# Altium schematic symbol library dungvh03-CERN_Logic.SchLib: 486 symbols (part 25 of 54)
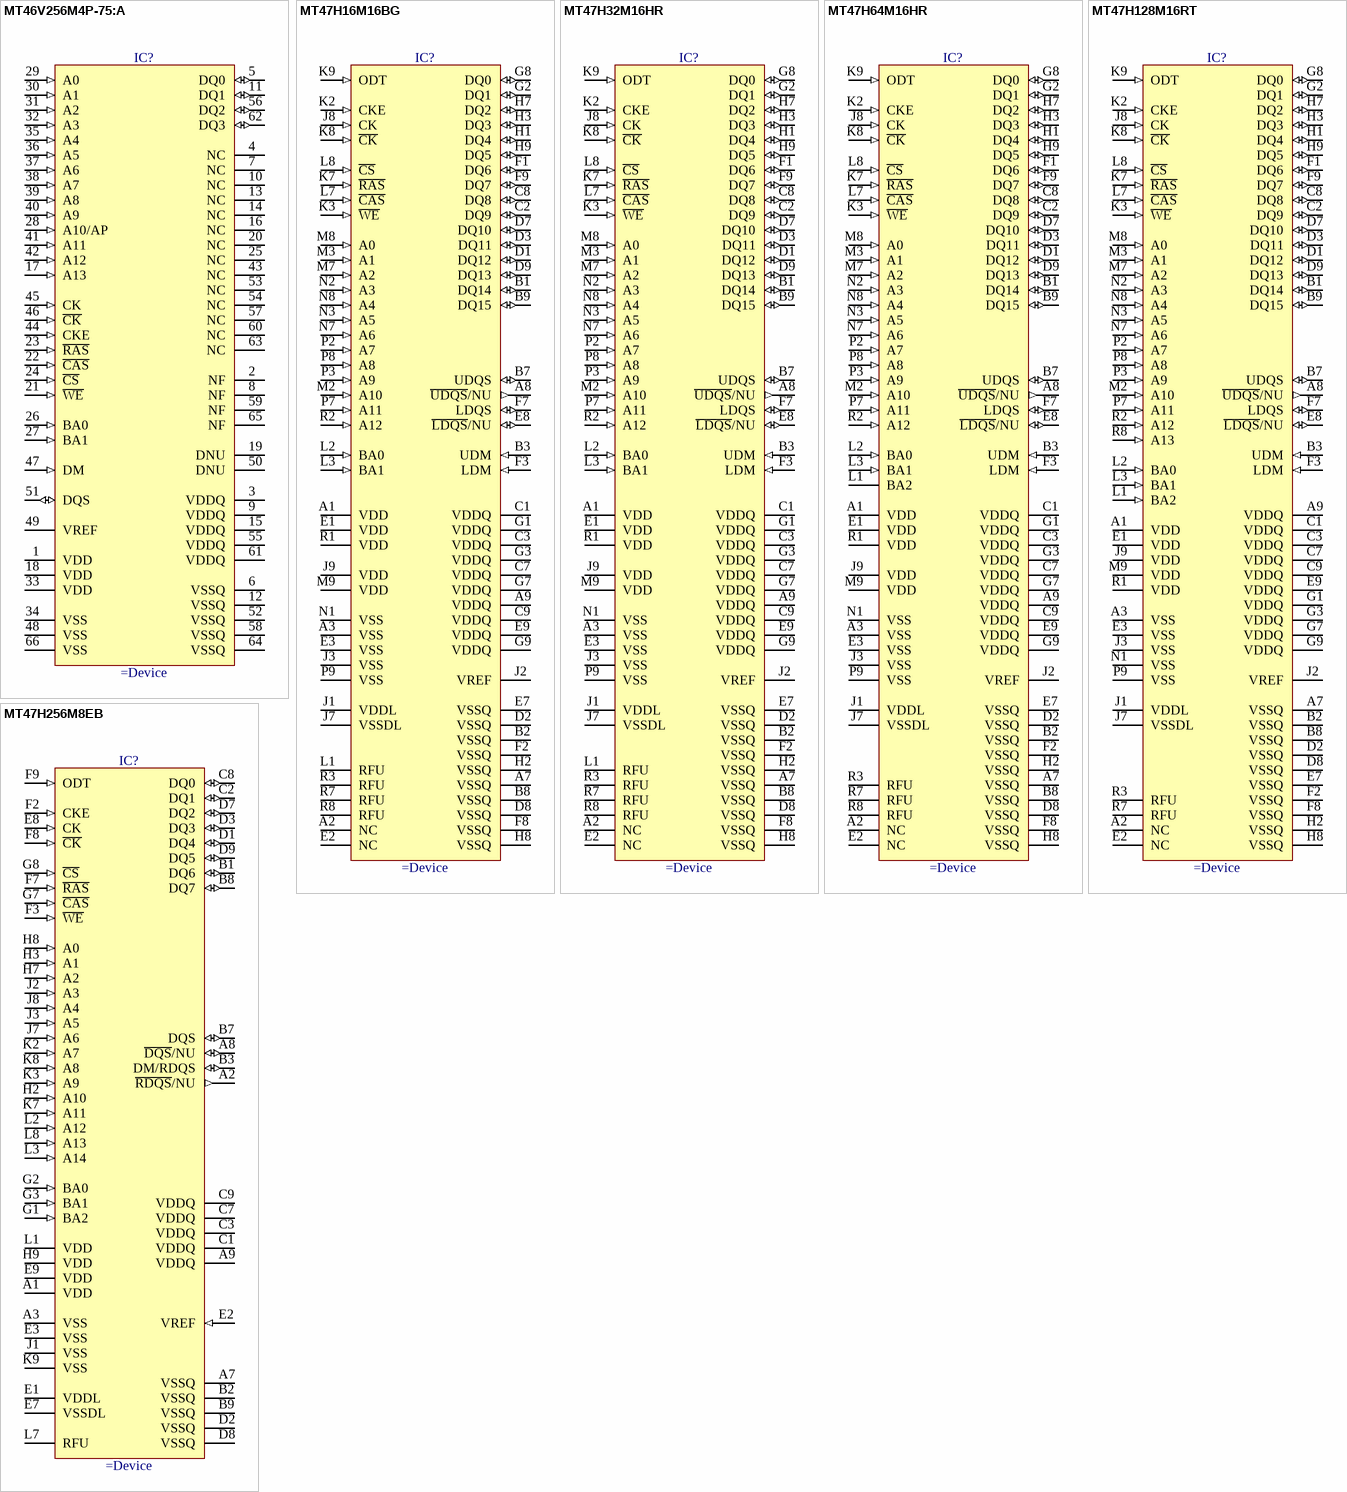
[diagram p285: symbols MT46V256M4P-75:A to MT47H256M8EB]

## MT47H256M8EB
designator IC?
DDR2 SDRAM 32 Meg x 8 x 8 Banks
pins: A1 VDD (power) "Power supply: 1.8V +/-0.1V.", A2 ~{RDQS}/NU (out) "Redundant data strobe: For x8 only. RDQS is enabled/disabled via the LOAD MODE command to the extended mode register (EMR). When RDQS is enabled, RDQS is output with read data only and is ignored during write data. When RDQS (See Datasheet)", A3 VSS (power) "Ground.", A7 VSSQ (power) "DQ ground: Isolated on the device for improved noise immunity.", A8 ~{DQS}/NU (io) "Data strobe: Output with read data, input with write data for source synchronous operation. Edge-aligned with read data, center-aligned with write data. DQS# is only used when differential data strobe mode is enabled via the (See Datasheet)", A9 VDDQ (power) "DQ power supply: 1.8V +/-0.1V. Isolated on the device for improved noise immunity.", B1 DQ6 (io) "Data input/output: Bidirectional data bus for 256 Meg x 8.", B2 VSSQ (power) "DQ ground: Isolated on the device for improved noise immunity.", B3 DM/RDQS (io) "Input data mask: DM is an input mask signal for write data. Input data is masked when DM is concurrently sampled HIGH during a WRITE access. DM is sampled on both edges of DQS. Although DM balls are input-only, the DM (See Datasheet)", B7 DQS (io) "Data strobe: Output with read data, input with write data for source synchronous operation. Edge-aligned with read data, center-aligned with write data. DQS# is only used when differential data strobe mode is enabled via the (See Datasheet)", B8 DQ7 (io) "Data input/output: Bidirectional data bus for 256 Meg x 8.", B9 VSSQ (power) "DQ ground: Isolated on the device for improved noise immunity.", C1 VDDQ (power) "DQ power supply: 1.8V +/-0.1V. Isolated on the device for improved noise immunity.", C2 DQ1 (io) "Data input/output: Bidirectional data bus for 256 Meg x 8.", C3 VDDQ (power) "DQ power supply: 1.8V +/-0.1V. Isolated on the device for improved noise immunity.", C7 VDDQ (power) "DQ power supply: 1.8V +/-0.1V. Isolated on the device for improved noise immunity.", C8 DQ0 (io) "Data input/output: Bidirectional data bus for 256 Meg x 8.", C9 VDDQ (power) "DQ power supply: 1.8V +/-0.1V. Isolated on the device for improved noise immunity.", D1 DQ4 (io) "Data input/output: Bidirectional data bus for 256 Meg x 8.", D2 VSSQ (power) "DQ ground: Isolated on the device for improved noise immunity.", D3 DQ3 (io) "Data input/output: Bidirectional data bus for 256 Meg x 8.", D7 DQ2 (io) "Data input/output: Bidirectional data bus for 256 Meg x 8.", D8 VSSQ (power) "DQ ground: Isolated on the device for improved noise immunity.", D9 DQ5 (io) "Data input/output: Bidirectional data bus for 256 Meg x 8.", E1 VDDL (power) "DLL power supply: 1.8V +/-0.1V.", E2 VREF (in) "SSTL_18 reference voltage.", E3 VSS (power) "Ground.", E7 VSSDL (power) "DLL ground: Isolated on the device from VSS and VSSQ.", E8 CK (in) "Clock: CK and CK# are differential clock inputs. All address and control input signals are sampled on the crossing of the positive edge of CK and negative edge of CK#. Output data (DQ and DQS/DQS#) is referenced to the (See Datasheet)", E9 VDD (power) "Power supply: 1.8V +/-0.1V.", F2 CKE (in) "Clock enable: CKE (registered HIGH) activates and CKE (registered LOW) deactivates clocking circuitry on the DDR2 SDRAM. The specific circuitry that is enabled/disabled is dependent on the DDR2 SDRAM configuration and (See Datasheet)", F3 ~{WE} (in) "Command inputs: RAS#, CAS#, and WE# (along with CS#) define the command being entered.", F7 ~{RAS} (in) "Command inputs: RAS#, CAS#, and WE# (along with CS#) define the command being entered.", F8 ~{CK} (in) "Clock: CK and CK# are differential clock inputs. All address and control input signals are sampled on the crossing of the positive edge of CK and negative edge of CK#. Output data (DQ and DQS/DQS#) is referenced to the (See Datasheet)", F9 ODT (in) "On-die termination: ODT (registered HIGH) enables termination resistance internal to the DDR2 SDRAM. When enabled, ODT is only applied to each of the following balls: DQ[15:0], LDM, UDM, LDQS, LDQS#, UDQS, and UDQS# for the (See Datasheet)", G1 BA2 (in) "Bank address inputs: BA[2:0] define to which bank an ACTIVE, READ, WRITE, or PRECHARGE command is being applied. BA[2:0] define which mode register, including MR, EMR, EMR(2), and EMR(3), is loaded during the LOAD MODE (See Datasheet)", G2 BA0 (in) "Bank address inputs: BA[2:0] define to which bank an ACTIVE, READ, WRITE, or PRECHARGE command is being applied. BA[2:0] define which mode register, including MR, EMR, EMR(2), and EMR(3), is loaded during the LOAD MODE (See Datasheet)", G3 BA1 (in) "Bank address inputs: BA[2:0] define to which bank an ACTIVE, READ, WRITE, or PRECHARGE command is being applied. BA[2:0] define which mode register, including MR, EMR, EMR(2), and EMR(3), is loaded during the LOAD MODE (See Datasheet)", G7 ~{CAS} (in) "Command inputs: RAS#, CAS#, and WE# (along with CS#) define the command being entered.", G8 ~{CS} (in) "Chip select: CS# enables (registered LOW) and disables (registered HIGH) the command decoder. All commands are masked when CS# is registered high. CS# provides for external bank selection on systems with multiple ranks. CS# (See Datasheet)", H2 A10 (in) "Address inputs: Provide the row address for ACTIVE commands, and the column address and auto precharge bit (A10) for READ/WRITE commands, to select one location out of the memory array in the respective bank. A10 sampled (See Datasheet)", H3 A1 (in) "Address inputs: Provide the row address for ACTIVE commands, and the column address and auto precharge bit (A10) for READ/WRITE commands, to select one location out of the memory array in the respective bank. A10 sampled (See Datasheet)", H7 A2 (in) "Address inputs: Provide the row address for ACTIVE commands, and the column address and auto precharge bit (A10) for READ/WRITE commands, to select one location out of the memory array in the respective bank. A10 sampled (See Datasheet)", H8 A0 (in) "Address inputs: Provide the row address for ACTIVE commands, and the column address and auto precharge bit (A10) for READ/WRITE commands, to select one location out of the memory array in the respective bank. A10 sampled (See Datasheet)", H9 VDD (power) "Power supply: 1.8V +/-0.1V.", J1 VSS (power) "Ground.", J2 A3 (in) "Address inputs: Provide the row address for ACTIVE commands, and the column address and auto precharge bit (A10) for READ/WRITE commands, to select one location out of the memory array in the respective bank. A10 sampled (See Datasheet)", J3 A5 (in) "Address inputs: Provide the row address for ACTIVE commands, and the column address and auto precharge bit (A10) for READ/WRITE commands, to select one location out of the memory array in the respective bank. A10 sampled (See Datasheet)", J7 A6 (in) "Address inputs: Provide the row address for ACTIVE commands, and the column address and auto precharge bit (A10) for READ/WRITE commands, to select one location out of the memory array in the respective bank. A10 sampled (See Datasheet)", J8 A4 (in) "Address inputs: Provide the row address for ACTIVE commands, and the column address and auto precharge bit (A10) for READ/WRITE commands, to select one location out of the memory array in the respective bank. A10 sampled (See Datasheet)", K2 A7 (in) "Address inputs: Provide the row address for ACTIVE commands, and the column address and auto precharge bit (A10) for READ/WRITE commands, to select one location out of the memory array in the respective bank. A10 sampled (See Datasheet)", K3 A9 (in) "Address inputs: Provide the row address for ACTIVE commands, and the column address and auto precharge bit (A10) for READ/WRITE commands, to select one location out of the memory array in the respective bank. A10 sampled (See Datasheet)", K7 A11 (in) "Address inputs: Provide the row address for ACTIVE commands, and the column address and auto precharge bit (A10) for READ/WRITE commands, to select one location out of the memory array in the respective bank. A10 sampled (See Datasheet)", K8 A8 (in) "Address inputs: Provide the row address for ACTIVE commands, and the column address and auto precharge bit (A10) for READ/WRITE commands, to select one location out of the memory array in the respective bank. A10 sampled (See Datasheet)", K9 VSS (power) "Ground.", L1 VDD (power) "Power supply: 1.8V +/-0.1V.", L2 A12 (in) "Address inputs: Provide the row address for ACTIVE commands, and the column address and auto precharge bit (A10) for READ/WRITE commands, to select one location out of the memory array in the respective bank. A10 sampled (See Datasheet)", L3 A14 (in) "Address inputs: Provide the row address for ACTIVE commands, and the column address and auto precharge bit (A10) for READ/WRITE commands, to select one location out of the memory array in the respective bank. A10 sampled (See Datasheet)", L7 RFU "Reserved for future use: Row address bits A14 (R3), A15 (R7) on the x16, and A15 (L7) on the x4/x8.", L8 A13 (in) "Address inputs: Provide the row address for ACTIVE commands, and the column address and auto precharge bit (A10) for READ/WRITE commands, to select one location out of the memory array in the respective bank. A10 sampled (See Datasheet)"

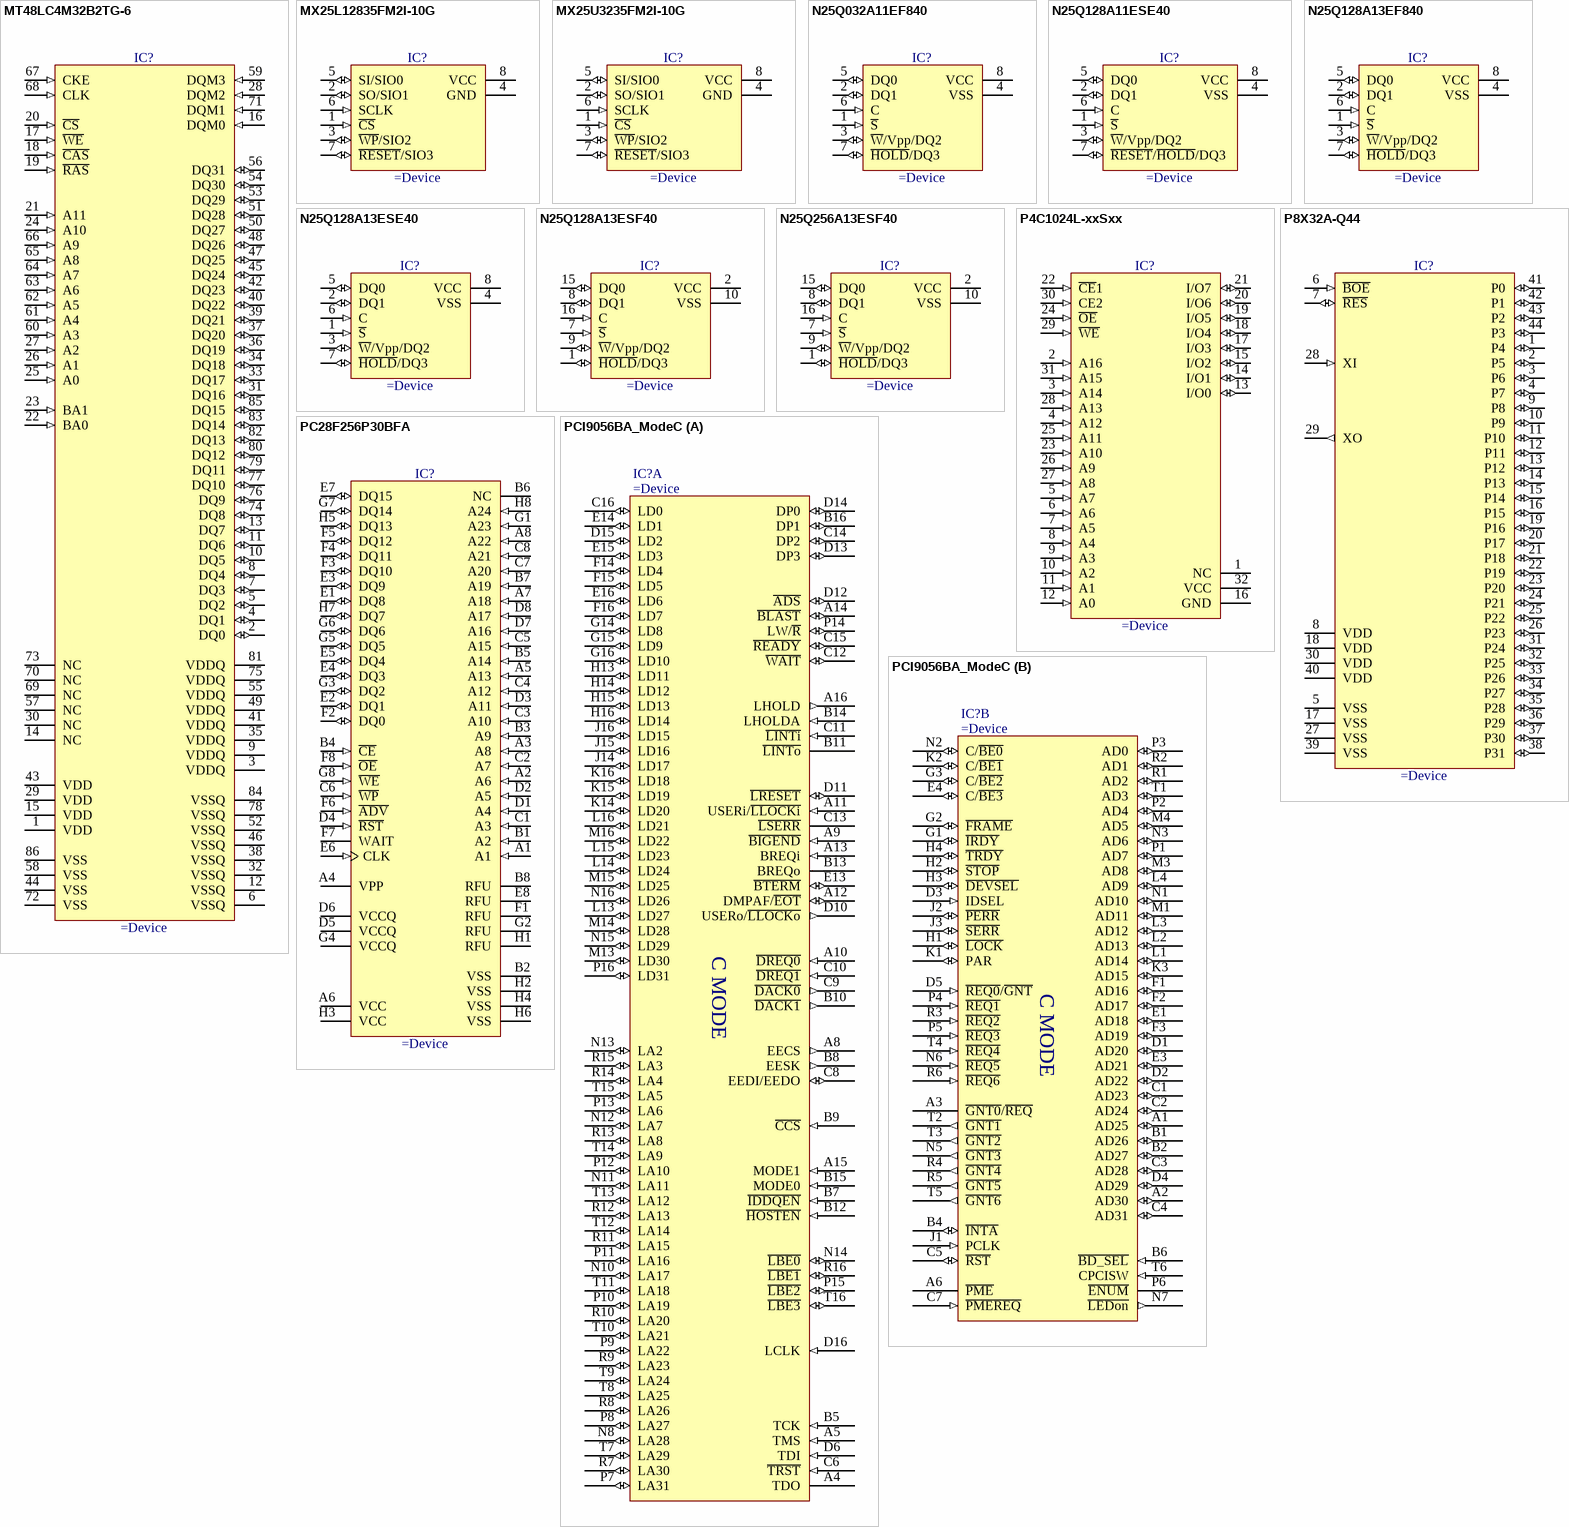
[diagram p110: symbols MT48LC4M32B2TG-6 to PCI9056BA_ModeC]

## MT48LC4M32B2TG-6
designator IC?
4M x 32 Synchronous DRAM
pins: 1 VDD (power), 2 DQ0 (io), 3 VDDQ (power), 4 DQ1 (io), 5 DQ2 (io), 6 VSSQ (power), 7 DQ3 (io), 8 DQ4 (io), 9 VDDQ (power), 10 DQ5 (io), 11 DQ6 (io), 12 VSSQ (power), 13 DQ7 (io), 14 NC, 15 VDD (power), 16 DQM0 (in), 17 ~{WE} (in), 18 ~{CAS} (in), 19 ~{RAS} (in), 20 ~{CS} (in), 21 A11 (in), 22 BA0 (in), 23 BA1 (in), 24 A10 (in), 25 A0 (in), 26 A1 (in), 27 A2 (in), 28 DQM2 (in), 29 VDD (power), 30 NC, 31 DQ16 (io), 32 VSSQ (power), 33 DQ17 (io), 34 DQ18 (io), 35 VDDQ (power), 36 DQ19 (io), 37 DQ20 (io), 38 VSSQ (power), 39 DQ21 (io), 40 DQ22 (io), 41 VDDQ (power), 42 DQ23 (io), 43 VDD (power), 44 VSS (power), 45 DQ24 (io), 46 VSSQ (power), 47 DQ25 (io), 48 DQ26 (io), 49 VDDQ (power), 50 DQ27 (io), 51 DQ28 (io), 52 VSSQ (power), 53 DQ29 (io), 54 DQ30 (io), 55 VDDQ (power), 56 DQ31 (io), 57 NC, 58 VSS (power), 59 DQM3 (in), 60 A3 (in), 61 A4 (in), 62 A5 (in), 63 A6 (in), 64 A7 (in), 65 A8 (in), 66 A9 (in), 67 CKE (in), 68 CLK (in), 69 NC, 70 NC, 71 DQM1 (in), 72 VSS (power), 73 NC, 74 DQ8 (io), 75 VDDQ (power), 76 DQ9 (io), 77 DQ10 (io), 78 VSSQ (power), 79 DQ11 (io), 80 DQ12 (io), 81 VDDQ (power), 82 DQ13 (io), 83 DQ14 (io), 84 VSSQ (power), 85 DQ15 (io), 86 VSS (power)

## MX25L12835FM2I-10G
designator IC?
128Mb, 3V, Serial Multi I/O Flash Memory
pins: 1 ~{CS} (in), 2 SO/SIO1 (io), 3 ~{WP}/SIO2 (io), 4 GND (power), 5 SI/SIO0 (io), 6 SCLK (in), 7 ~{RESET}/SIO3 (io), 8 VCC (power)

## MX25U3235FM2I-10G
designator IC?
32Mb (4M x 8), 1.8V, CMOS MXSMIO® Serial Multi I/O Flash Memory
pins: 1 ~{CS} (in), 2 SO/SIO1 (io), 3 ~{WP}/SIO2 (io), 4 GND (power), 5 SI/SIO0 (io), 6 SCLK (in), 7 ~{RESET}/SIO3 (io), 8 VCC (power)

## N25Q032A11EF840
designator IC?
32Mb, 1.8V, Multiple I/O Serial Flash Memory
pins: 1 ~{S} (in), 2 DQ1 (io), 3 ~{W}/Vpp/DQ2 (io), 4 VSS (power), 5 DQ0 (io), 6 C (in), 7 ~{HOLD}/DQ3 (io), 8 VCC (power)

## N25Q128A11ESE40
designator IC?
128Mb, 1.8V, Multiple I/O Serial NOR Flash Memory
pins: 1 ~{S} (in), 2 DQ1 (io), 3 ~{W}/Vpp/DQ2 (io), 4 VSS (power), 5 DQ0 (io), 6 C (in), 7 ~{RESET}/~{HOLD}/DQ3 (io), 8 VCC (power)

## N25Q128A13EF840
designator IC?
128Mb, 3V, Multiple I/O Serial NOR Flash Memory
pins: 1 ~{S} (in), 2 DQ1 (io), 3 ~{W}/Vpp/DQ2 (io), 4 VSS (power), 5 DQ0 (io), 6 C (in), 7 ~{HOLD}/DQ3 (io), 8 VCC (power)

## N25Q128A13ESE40
designator IC?
128Mb, 3V, Multiple I/O Serial NOR Flash Memory
pins: 1 ~{S} (in), 2 DQ1 (io), 3 ~{W}/Vpp/DQ2 (io), 4 VSS (power), 5 DQ0 (io), 6 C (in), 7 ~{HOLD}/DQ3 (io), 8 VCC (power)

## N25Q128A13ESF40
designator IC?
128Mb, 3V, Multiple I/O Serial NOR Flash Memory
pins: 1 ~{HOLD}/DQ3 (io), 2 VCC (power), 7 ~{S} (in), 8 DQ1 (io), 9 ~{W}/Vpp/DQ2 (io), 10 VSS (power), 15 DQ0 (io), 16 C (in)

## N25Q256A13ESF40
designator IC?
256Mb, 3V, Multiple I/O Serial Flash Memory
pins: 1 ~{HOLD}/DQ3 (io), 2 VCC (power), 7 ~{S} (in), 8 DQ1 (io), 9 ~{W}/Vpp/DQ2 (io), 10 VSS (power), 15 DQ0 (io), 16 C (in)

## P4C1024L-xxSxx
designator IC?
5V Low Power 128K x 8 CMOS Static RAM
pins: 1 NC, 2 A16 (in), 3 A14 (in), 4 A12 (in), 5 A7 (in), 6 A6 (in), 7 A5 (in), 8 A4 (in), 9 A3 (in), 10 A2 (in), 11 A1 (in), 12 A0 (in), 13 I/O0 (io), 14 I/O1 (io), 15 I/O2 (io), 16 GND (power), 17 I/O3 (io), 18 I/O4 (io), 19 I/O5 (io), 20 I/O6 (io), 21 I/O7 (io), 22 ~{CE}1 (in), 23 A10 (in), 24 ~{OE} (in), 25 A11 (in), 26 A9 (in), 27 A8 (in), 28 A13 (in), 29 ~{WE} (in), 30 CE2 (in), 31 A15 (in), 32 VCC (power)

## P8X32A-Q44
designator IC?
32-Bit PROPELLER MCU
pins: 1 P4 (io), 2 P5 (io), 3 P6 (io), 4 P7 (io), 5 VSS (power), 6 ~{BOE} (in), 7 ~{RES} (io), 8 VDD (power), 9 P8 (io), 10 P9 (io), 11 P10 (io), 12 P11 (io), 13 P12 (io), 14 P13 (io), 15 P14 (io), 16 P15 (io), 17 VSS (power), 18 VDD (power), 19 P16 (io), 20 P17 (io), 21 P18 (io), 22 P19 (io), 23 P20 (io), 24 P21 (io), 25 P22 (io), 26 P23 (io), 27 VSS (power), 28 XI (in), 29 XO (out), 30 VDD (power), 31 P24 (io), 32 P25 (io), 33 P26 (io), 34 P27 (io), 35 P28 (io), 36 P29 (io), 37 P30 (io), 38 P31 (io), 39 VSS (power), 40 VDD (power), 41 P0 (io), 42 P1 (io), 43 P2 (io), 44 P3 (io)

## PC28F256P30BFA
designator IC?
256 Mb (x16) Parallel NOR Flash Memory, 100 ns, 1.7 to 2.0 V, 64-ball Easy BGA (PC), Tray
pins: A1 (in) "Address Input: Device Address Input. 64-Mbit: A[22:1]; 128-Mbit: A[23:1]; 256-Mbit: A[24:1]; 512-Mbit: A[25:1]. Note: The virtual selection of the 256-Mbit "Top parameter" die in the dual-die 512-Mbit configuration is (See Datasheet)", A2 A6 (in) "Address Input: Device Address Input. 64-Mbit: A[22:1]; 128-Mbit: A[23:1]; 256-Mbit: A[24:1]; 512-Mbit: A[25:1]. Note: The virtual selection of the 256-Mbit "Top parameter" die in the dual-die 512-Mbit configuration is (See Datasheet)", A3 A8 (in) "Address Input: Device Address Input. 64-Mbit: A[22:1]; 128-Mbit: A[23:1]; 256-Mbit: A[24:1]; 512-Mbit: A[25:1]. Note: The virtual selection of the 256-Mbit "Top parameter" die in the dual-die 512-Mbit configuration is (See Datasheet)", A4 VPP (power) "Erase and Program Power: A valid voltage on this pin allows erasing or programming. Memory contents cannot be altered when VPP =< VPPLK. Block erase and program at invalid VPP voltages should not be attempted. Set VPP = VPPL (See Datasheet)", A5 A13 (in) "Address Input: Device Address Input. 64-Mbit: A[22:1]; 128-Mbit: A[23:1]; 256-Mbit: A[24:1]; 512-Mbit: A[25:1]. Note: The virtual selection of the 256-Mbit "Top parameter" die in the dual-die 512-Mbit configuration is (See Datasheet)", A6 VCC (power) "Device Core Power Supply: Core (logic) source voltage. Writes to the flash array are inhibited when VCC =< VLKO. Operations at invalid VCC voltages should not be attempted.", A7 A18 (in) "Address Input: Device Address Input. 64-Mbit: A[22:1]; 128-Mbit: A[23:1]; 256-Mbit: A[24:1]; 512-Mbit: A[25:1]. Note: The virtual selection of the 256-Mbit "Top parameter" die in the dual-die 512-Mbit configuration is (See Datasheet)", A8 A22 (in) "Address Input: Device Address Input. 64-Mbit: A[22:1]; 128-Mbit: A[23:1]; 256-Mbit: A[24:1]; 512-Mbit: A[25:1]. Note: The virtual selection of the 256-Mbit "Top parameter" die in the dual-die 512-Mbit configuration is (See Datasheet)", B1 A2 (in) "Address Input: Device Address Input. 64-Mbit: A[22:1]; 128-Mbit: A[23:1]; 256-Mbit: A[24:1]; 512-Mbit: A[25:1]. Note: The virtual selection of the 256-Mbit "Top parameter" die in the dual-die 512-Mbit configuration is (See Datasheet)", B2 VSS (power) "Ground: Connect to system ground. Do not float any VSS connection.", B3 A9 (in) "Address Input: Device Address Input. 64-Mbit: A[22:1]; 128-Mbit: A[23:1]; 256-Mbit: A[24:1]; 512-Mbit: A[25:1]. Note: The virtual selection of the 256-Mbit "Top parameter" die in the dual-die 512-Mbit configuration is (See Datasheet)", B4 ~{CE} (in) "FLASH CHIP ENABLE: Active low input. CE# low selects the associated flash memory die. When asserted, flash internal control logic, input buffers, decoders, and sense amplifiers are active. When deasserted, the associated (See Datasheet)", B5 A14 (in) "Address Input: Device Address Input. 64-Mbit: A[22:1]; 128-Mbit: A[23:1]; 256-Mbit: A[24:1]; 512-Mbit: A[25:1]. Note: The virtual selection of the 256-Mbit "Top parameter" die in the dual-die 512-Mbit configuration is (See Datasheet)", B6 NC "No Connect: No internal connection; can be driven or floated.", B7 A19 (in) "Address Input: Device Address Input. 64-Mbit: A[22:1]; 128-Mbit: A[23:1]; 256-Mbit: A[24:1]; 512-Mbit: A[25:1]. Note: The virtual selection of the 256-Mbit "Top parameter" die in the dual-die 512-Mbit configuration is (See Datasheet)", B8 RFU "Reserved for Future Use: Reserved by Numonyx for future device functionality and enhancement. These should be treated in the same way as a Do Not Use (DU) signal.", C1 A3 (in) "Address Input: Device Address Input. 64-Mbit: A[22:1]; 128-Mbit: A[23:1]; 256-Mbit: A[24:1]; 512-Mbit: A[25:1]. Note: The virtual selection of the 256-Mbit "Top parameter" die in the dual-die 512-Mbit configuration is (See Datasheet)", C2 A7 (in) "Address Input: Device Address Input. 64-Mbit: A[22:1]; 128-Mbit: A[23:1]; 256-Mbit: A[24:1]; 512-Mbit: A[25:1]. Note: The virtual selection of the 256-Mbit "Top parameter" die in the dual-die 512-Mbit configuration is (See Datasheet)", C3 A10 (in) "Address Input: Device Address Input. 64-Mbit: A[22:1]; 128-Mbit: A[23:1]; 256-Mbit: A[24:1]; 512-Mbit: A[25:1]. Note: The virtual selection of the 256-Mbit "Top parameter" die in the dual-die 512-Mbit configuration is (See Datasheet)", C4 A12 (in) "Address Input: Device Address Input. 64-Mbit: A[22:1]; 128-Mbit: A[23:1]; 256-Mbit: A[24:1]; 512-Mbit: A[25:1]. Note: The virtual selection of the 256-Mbit "Top parameter" die in the dual-die 512-Mbit configuration is (See Datasheet)", C5 A15 (in) "Address Input: Device Address Input. 64-Mbit: A[22:1]; 128-Mbit: A[23:1]; 256-Mbit: A[24:1]; 512-Mbit: A[25:1]. Note: The virtual selection of the 256-Mbit "Top parameter" die in the dual-die 512-Mbit configuration is (See Datasheet)", C6 ~{WP} (in) "WRITE PROTECT: Active low input. WP# low enables the lock-down mechanism. Blocks in lockdown cannot be unlocked with the Unlock command. WP# high overrides the lock-down function enabling blocks to be erased or programmed (See Datasheet)", C7 A20 (in) "Address Input: Device Address Input. 64-Mbit: A[22:1]; 128-Mbit: A[23:1]; 256-Mbit: A[24:1]; 512-Mbit: A[25:1]. Note: The virtual selection of the 256-Mbit "Top parameter" die in the dual-die 512-Mbit configuration is (See Datasheet)", C8 A21 (in) "Address Input: Device Address Input. 64-Mbit: A[22:1]; 128-Mbit: A[23:1]; 256-Mbit: A[24:1]; 512-Mbit: A[25:1]. Note: The virtual selection of the 256-Mbit "Top parameter" die in the dual-die 512-Mbit configuration is (See Datasheet)", D1 A4 (in) "Address Input: Device Address Input. 64-Mbit: A[22:1]; 128-Mbit: A[23:1]; 256-Mbit: A[24:1]; 512-Mbit: A[25:1]. Note: The virtual selection of the 256-Mbit "Top parameter" die in the dual-die 512-Mbit configuration is (See Datasheet)", D2 A5 (in) "Address Input: Device Address Input. 64-Mbit: A[22:1]; 128-Mbit: A[23:1]; 256-Mbit: A[24:1]; 512-Mbit: A[25:1]. Note: The virtual selection of the 256-Mbit "Top parameter" die in the dual-die 512-Mbit configuration is (See Datasheet)", D3 A11 (in) "Address Input: Device Address Input. 64-Mbit: A[22:1]; 128-Mbit: A[23:1]; 256-Mbit: A[24:1]; 512-Mbit: A[25:1]. Note: The virtual selection of the 256-Mbit "Top parameter" die in the dual-die 512-Mbit configuration is (See Datasheet)", D4 ~{RST} (in) "RESET: Active low input. RST# resets internal automation and inhibits write operations. This provides data protection during power transitions. RST# high enables normal operation. Exit from reset places the device in (See Datasheet)", D5 VCCQ (power) "Output Power Supply: Output-driver source voltage.", D6 VCCQ (power) "Output Power Supply: Output-driver source voltage.", D7 A16 (in) "Address Input: Device Address Input. 64-Mbit: A[22:1]; 128-Mbit: A[23:1]; 256-Mbit: A[24:1]; 512-Mbit: A[25:1]. Note: The virtual selection of the 256-Mbit "Top parameter" die in the dual-die 512-Mbit configuration is (See Datasheet)", D8 A17 (in) "Address Input: Device Address Input. 64-Mbit: A[22:1]; 128-Mbit: A[23:1]; 256-Mbit: A[24:1]; 512-Mbit: A[25:1]. Note: The virtual selection of the 256-Mbit "Top parameter" die in the dual-die 512-Mbit configuration is (See Datasheet)", E1 DQ8 (io) "DATA INPUT/Output: Input data and commands during write cycles; Output data during memory, Status Register, Protection Register, and Read Configuration Register reads. Data balls float when the CE# or OE# are deasserted. (See Datasheet)", E2 DQ1 (io) "DATA INPUT/Output: Input data and commands during write cycles; Output data during memory, Status Register, Protection Register, and Read Configuration Register reads. Data balls float when the CE# or OE# are deasserted. (See Datasheet)", E3 DQ9 (io) "DATA INPUT/Output: Input data and commands during write cycles; Output data during memory, Status Register, Protection Register, and Read Configuration Register reads. Data balls float when the CE# or OE# are deasserted. (See Datasheet)", E4 DQ3 (io) "DATA INPUT/Output: Input data and commands during write cycles; Output data during memory, Status Register, Protection Register, and Read Configuration Register reads. Data balls float when the CE# or OE# are deasserted. (See Datasheet)", E5 DQ4 (io) "DATA INPUT/Output: Input data and commands during write cycles; Output data during memory, Status Register, Protection Register, and Read Configuration Register reads. Data balls float when the CE# or OE# are deasserted. (See Datasheet)", E6 CLK (in) "CLOCK: Synchronizes the device with the system’s bus frequency in synchronous-read mode. During synchronous read operations, addresses are latched on the rising edge of ADV#, or on the next valid CLK edge with ADV# low, (See Datasheet)", E7 DQ15 (io) "DATA INPUT/OUTPUT: Inputs data and commands during write cycles; outputs data during memory, Status Register, Protection Register, and Read Configuration Register reads. Data balls float when the CE# or OE# are deasserted. (See Datasheet)", E8 RFU "Reserved for Future Use: Reserved by Numonyx for future device functionality and enhancement. These should be treated in the same way as a Do Not Use (DU) signal.", F1 RFU "Reserved for Future Use: Reserved by Numonyx for future device functionality and enhancement. These should be treated in the same way as a Do Not Use (DU) signal.", F2 DQ0 (io) "DATA INPUT/Output: Input data and commands during write cycles; Output data during memory, Status Register, Protection Register, and Read Configuration Register reads. Data balls float when the CE# or OE# are deasserted. (See Datasheet)", F3 DQ10 (io) "DATA INPUT/Output: Input data and commands during write cycles; Output data during memory, Status Register, Protection Register, and Read Configuration Register reads. Data balls float when the CE# or OE# are deasserted. (See Datasheet)", F4 DQ11 (io) "DATA INPUT/Output: Input data and commands during write cycles; Output data during memory, Status Register, Protection Register, and Read Configuration Register reads. Data balls float when the CE# or OE# are deasserted. (See Datasheet)", F5 DQ12 (io) "DATA INPUT/Output: Input data and commands during write cycles; Output data during memory, Status Register, Protection Register, and Read Configuration Register reads. Data balls float when the CE# or OE# are deasserted. (See Datasheet)", F6 ~{ADV} (in) "ADDRESS VALID: Active low input. During synchronous read operations, addresses are latched on the rising edge of ADV#, or on the next valid CLK edge with ADV# low, whichever occurs first. In asynchronous mode, the address is (See Datasheet)", F7 WAIT (hiz) "WAIT: Indicates data valid in synchronous array or non-array burst reads. Read Configuration Register bit 10 (RCR[10], WT) determines its polarity when asserted. WAIT’s active output is VOL or VOH when CE# and OE# are VIL. (See Datasheet)", F8 ~{OE} (in) "OUTPUT ENABLE: Active low input. OE# low enables the device’s output data buffers during read cycles. OE# high places the data outputs and WAIT in High-Z.", G1 A23 (in) "Address Input: Device Address Input. 64-Mbit: A[22:1]; 128-Mbit: A[23:1]; 256-Mbit: A[24:1]; 512-Mbit: A[25:1]. Note: The virtual selection of the 256-Mbit "Top parameter" die in the dual-die 512-Mbit configuration is (See Datasheet)", G2 RFU "Reserved for Future Use: Reserved by Numonyx for future device functionality and enhancement. These should be treated in the same way as a Do Not Use (DU) signal.", G3 DQ2 (io) "DATA INPUT/Output: Input data and commands during write cycles; Output data during memory, Status Register, Protection Register, and Read Configuration Register reads. Data balls float when the CE# or OE# are deasserted. (See Datasheet)", G4 VCCQ (power) "Output Power Supply: Output-driver source voltage.", G5 DQ5 (io) "DATA INPUT/Output: Input data and commands during write cycles; Output data during memory, Status Register, Protection Register, and Read Configuration Register reads. Data balls float when the CE# or OE# are deasserted. (See Datasheet)", G6 DQ6 (io) "DATA INPUT/Output: Input data and commands during write cycles; Output data during memory, Status Register, Protection Register, and Read Configuration Register reads. Data balls float when the CE# or OE# are deasserted. (See Datasheet)", G7 DQ14 (io) "DATA INPUT/Output: Input data and commands during write cycles; Output data during memory, Status Register, Protection Register, and Read Configuration Register reads. Data balls float when the CE# or OE# are deasserted. (See Datasheet)", G8 ~{WE} (in) "WRITE ENABLE: Active low input. WE# controls writes to the device. Address and data are latched on the rising edge of WE#.", H1 RFU "Reserved for Future Use: Reserved by Numonyx for future device functionality and enhancement. These should be treated in the same way as a Do Not Use (DU) signal.", H2 VSS (power) "Ground: Connect to system ground. Do not float any VSS connection.", H3 VCC (power) "Device Core Power Supply: Core (logic) source voltage. Writes to the flash array are inhibited when VCC . VLKO. Operations at invalid VCC voltages should not be attempted.", H4 VSS (power) "Ground: Connect to system ground. Do not float any VSS connection.", H5 DQ13 (io) "DATA INPUT/Output: Input data and commands during write cycles; Output data during memory, Status Register, Protection Register, and Read Configuration Register reads. Data balls float when the CE# or OE# are deasserted. (See Datasheet)", H6 VSS (power) "Ground: Connect to system ground. Do not float any VSS connection.", H7 DQ7 (io) "DATA INPUT/Output: Input data and commands during write cycles; Output data during memory, Status Register, Protection Register, and Read Configuration Register reads. Data balls float when the CE# or OE# are deasserted. (See Datasheet)", H8 A24 (in) "Address Input: Device Address Input. 64-Mbit: A[22:1]; 128-Mbit: A[23:1]; 256-Mbit: A[24:1]; 512-Mbit: A[25:1]. Note: The virtual selection of the 256-Mbit "Top parameter" die in the dual-die 512-Mbit configuration is (See Datasheet)"

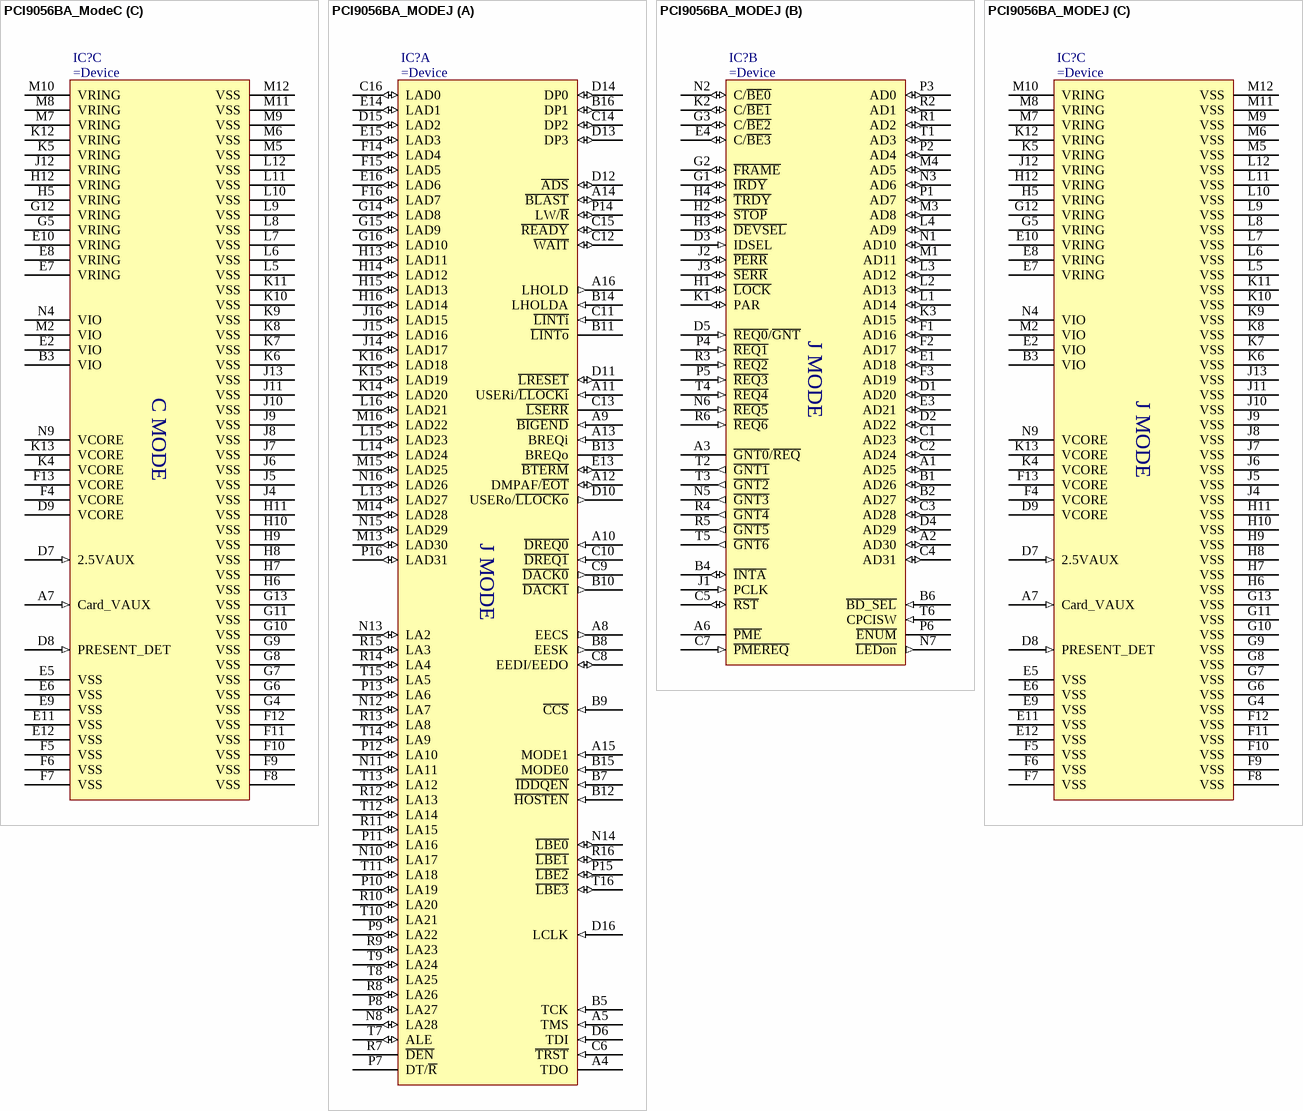
[diagram p111: symbols PCI9056BA_ModeC to PCI9056BA_MODEJ]

## PCI9056BA_ModeC
designator IC?
32-Bit 66MHz PCI Bus Mastering I/O Accelerator For PowerQUICC And Generic 32-Bit, 66MHz Local Bus Design
part A pins: A4 TDO (hiz), A5 TMS (in), A8 EECS (out), A9 ~{BIGEND} (in), A10 ~{DREQ0} (in), A11 USERi/~{LLOCKi} (in), A12 DMPAF/~{EOT} (io), A13 BREQi (in), A14 ~{BLAST} (io), A15 MODE1 (in), A16 LHOLD (out), B5 TCK (in), B7 ~{IDDQEN} (in), B8 EESK (out), B9 ~{CCS} (in), B10 ~{DACK1} (out), B11 ~{LINTo} (oc), B12 ~{HOSTEN} (in), B13 BREQo (hiz), B14 LHOLDA (in), B15 MODE0 (in), B16 DP1 (io), C6 ~{TRST} (in), C8 EEDI/EEDO (io), C9 ~{DACK0} (out), C10 ~{DREQ1} (in), C11 ~{LINTi} (in), C12 ~{WAIT} (io), C13 ~{LSERR} (oc), C14 DP2 (io), C15 ~{READY} (io), C16 LD0 (io), D6 TDI (in), D10 USERo/~{LLOCKo} (out), D11 ~{LRESET} (io), D12 ~{ADS} (io), D13 DP3 (io), D14 DP0 (io), D15 LD2 (io), D16 LCLK (in), E13 ~{BTERM} (io), E14 LD1 (io), E15 LD3 (io), E16 LD6 (io), F14 LD4 (io), F15 LD5 (io), F16 LD7 (io), G14 LD8 (io), G15 LD9 (io), G16 LD10 (io), H13 LD11 (io), H14 LD12 (io), H15 LD13 (io), H16 LD14 (io), J14 LD17 (io), J15 LD16 (io), J16 LD15 (io), K14 LD20 (io), K15 LD19 (io), K16 LD18 (io), L13 LD27 (io), L14 LD24 (io), L15 LD23 (io), L16 LD21 (io), M13 LD30 (io), M14 LD28 (io), M15 LD25 (io), M16 LD22 (io), N8 LA28 (io), N10 LA17 (io), N11 LA11 (io), N12 LA7 (io), N13 LA2 (io), N14 ~{LBE0} (io), N15 LD29 (io), N16 LD26 (io), P7 LA31 (io), P8 LA27 (io), P9 LA22 (io), P10 LA19 (io), P11 LA16 (io), P12 LA10 (io), P13 LA6 (io), P14 LW/~{R} (io), P15 ~{LBE2} (io), P16 LD31 (io), R7 LA30 (io), R8 LA26 (io), R9 LA23 (io), R10 LA20 (io), R11 LA15 (io), R12 LA13 (io), R13 LA8 (io), R14 LA4 (io), R15 LA3 (io), R16 ~{LBE1} (io), T7 LA29 (io), T8 LA25 (io), T9 LA24 (io), T10 LA21 (io), T11 LA18 (io), T12 LA14 (io), T13 LA12 (io), T14 LA9 (io), T15 LA5 (io), T16 ~{LBE3} (io)
part B pins: A1 AD25 (io), A2 AD30 (io), A3 ~{GNT0}/~{REQ} (hiz), A6 ~{PME} (oc), B1 AD26 (io), B2 AD27 (io), B4 ~{INTA} (io), B6 ~{BD_SEL} (in), C1 AD23 (io), C2 AD24 (io), C3 AD28 (io), C4 AD31 (io), C5 ~{RST} (io), C7 ~{PMEREQ} (in), D1 AD20 (io), D2 AD22 (io), D3 IDSEL (in), D4 AD29 (io), D5 ~{REQ0}/~{GNT} (in), E1 AD18 (io), E3 AD21 (io), E4 C/~{BE3} (io), F1 AD16 (io), F2 AD17 (io), F3 AD19 (io), G1 ~{IRDY} (io), G2 ~{FRAME} (io), G3 C/~{BE2} (io), H1 ~{LOCK} (io), H2 ~{STOP} (io), H3 ~{DEVSEL} (io), H4 ~{TRDY} (io), J1 PCLK (in), J2 ~{PERR} (io), J3 ~{SERR} (io), K1 PAR (io), K2 C/~{BE1} (io), K3 AD15 (io), L1 AD14 (io), L2 AD13 (io), L3 AD12 (io), L4 AD9 (io), M1 AD11 (io), M3 AD8 (io), M4 AD5 (io), N1 AD10 (io), N2 C/~{BE0} (io), N3 AD6 (io), N5 ~{GNT3} (out), N6 ~{REQ5} (in), N7 ~{LEDon} (out), P1 AD7 (io), P2 AD4 (io), P3 AD0 (io), P4 ~{REQ1} (in), P5 ~{REQ3} (in), P6 ~{ENUM} (oc), R1 AD2 (io), R2 AD1 (io), R3 ~{REQ2} (in), R4 ~{GNT4} (out), R5 ~{GNT5} (out), R6 ~{REQ6} (in), T1 AD3 (io), T2 ~{GNT1} (out), T3 ~{GNT2} (out), T4 ~{REQ4} (in), T5 ~{GNT6} (out), T6 CPCISW (in)
part C pins: A7 Card_VAUX (in), B3 VIO (power), D7 2.5VAUX (in), D8 PRESENT_DET (in), D9 VCORE (power), E2 VIO (power), E5 VSS (power), E6 VSS (power), E7 VRING (power), E8 VRING (power), E9 VSS (power), E10 VRING (power), E11 VSS (power), E12 VSS (power), F4 VCORE (power), F5 VSS (power), F6 VSS (power), F7 VSS (power), F8 VSS (power), F9 VSS (power), F10 VSS (power), F11 VSS (power), F12 VSS (power), F13 VCORE (power), G4 VSS (power), G5 VRING (power), G6 VSS (power), G7 VSS (power), G8 VSS (power), G9 VSS (power), G10 VSS (power), G11 VSS (power), G12 VRING (power), G13 VSS (power), H5 VRING (power), H6 VSS (power), H7 VSS (power), H8 VSS (power), H9 VSS (power), H10 VSS (power), H11 VSS (power), H12 VRING (power), J4 VSS (power), J5 VSS (power), J6 VSS (power), J7 VSS (power), J8 VSS (power), J9 VSS (power), J10 VSS (power), J11 VSS (power), J12 VRING (power), J13 VSS (power), K4 VCORE (power), K5 VRING (power), K6 VSS (power), K7 VSS (power), K8 VSS (power), K9 VSS (power), K10 VSS (power), K11 VSS (power), K12 VRING (power), K13 VCORE (power), L5 VSS (power), L6 VSS (power), L7 VSS (power), L8 VSS (power), L9 VSS (power), L10 VSS (power), L11 VSS (power), L12 VSS (power), M2 VIO (power), M5 VSS (power), M6 VSS (power), M7 VRING (power), M8 VRING (power), M9 VSS (power), M10 VRING (power), M11 VSS (power), M12 VSS (power), N4 VIO (power), N9 VCORE (power)
part A text: C MODE
part B text: C MODE
part C text: C MODE

## PCI9056BA_MODEJ
designator IC?
32-Bit 66MHz PCI Bus Mastering I/O Accelerator For PowerQUICC And Generic 32-Bit, 66MHz Local Bus Design
part A pins: A4 TDO (hiz), A5 TMS (in), A8 EECS (out), A9 ~{BIGEND} (in), A10 ~{DREQ0} (in), A11 USERi/~{LLOCKi} (in), A12 DMPAF/~{EOT} (io), A13 BREQi (in), A14 ~{BLAST} (io), A15 MODE1 (in), A16 LHOLD (out), B5 TCK (in), B7 ~{IDDQEN} (in), B8 EESK (out), B9 ~{CCS} (in), B10 ~{DACK1} (out), B11 ~{LINTo} (oc), B12 ~{HOSTEN} (in), B13 BREQo (hiz), B14 LHOLDA (in), B15 MODE0 (in), B16 DP1 (io), C6 ~{TRST} (in), C8 EEDI/EEDO (io), C9 ~{DACK0} (out), C10 ~{DREQ1} (in), C11 ~{LINTi} (in), C12 ~{WAIT} (io), C13 ~{LSERR} (oc), C14 DP2 (io), C15 ~{READY} (io), C16 LAD0 (io), D6 TDI (in), D10 USERo/~{LLOCKo} (out), D11 ~{LRESET} (io), D12 ~{ADS} (io), D13 DP3 (io), D14 DP0 (io), D15 LAD2 (io), D16 LCLK (in), E13 ~{BTERM} (io), E14 LAD1 (io), E15 LAD3 (io), E16 LAD6 (io), F14 LAD4 (io), F15 LAD5 (io), F16 LAD7 (io), G14 LAD8 (io), G15 LAD9 (io), G16 LAD10 (io), H13 LAD11 (io), H14 LAD12 (io), H15 LAD13 (io), H16 LAD14 (io), J14 LAD17 (io), J15 LAD16 (io), J16 LAD15 (io), K14 LAD20 (io), K15 LAD19 (io), K16 LAD18 (io), L13 LAD27 (io), L14 LAD24 (io), L15 LAD23 (io), L16 LAD21 (io), M13 LAD30 (io), M14 LAD28 (io), M15 LAD25 (io), M16 LAD22 (io), N8 LA28 (io), N10 LA17 (io), N11 LA11 (io), N12 LA7 (io), N13 LA2 (io), N14 ~{LBE0} (io), N15 LAD29 (io), N16 LAD26 (io), P7 DT/~{R} (hiz), P8 LA27 (io), P9 LA22 (io), P10 LA19 (io), P11 LA16 (io), P12 LA10 (io), P13 LA6 (io), P14 LW/~{R} (io), P15 ~{LBE2} (io), P16 LAD31 (io), R7 ~{DEN} (hiz), R8 LA26 (io), R9 LA23 (io), R10 LA20 (io), R11 LA15 (io), R12 LA13 (io), R13 LA8 (io), R14 LA4 (io), R15 LA3 (io), R16 ~{LBE1} (io), T7 ALE (io), T8 LA25 (io), T9 LA24 (io), T10 LA21 (io), T11 LA18 (io), T12 LA14 (io), T13 LA12 (io), T14 LA9 (io), T15 LA5 (io), T16 ~{LBE3} (io)
part B pins: A1 AD25 (io), A2 AD30 (io), A3 ~{GNT0}/~{REQ} (hiz), A6 ~{PME} (oc), B1 AD26 (io), B2 AD27 (io), B4 ~{INTA} (io), B6 ~{BD_SEL} (in), C1 AD23 (io), C2 AD24 (io), C3 AD28 (io), C4 AD31 (io), C5 ~{RST} (io), C7 ~{PMEREQ} (in), D1 AD20 (io), D2 AD22 (io), D3 IDSEL (in), D4 AD29 (io), D5 ~{REQ0}/~{GNT} (in), E1 AD18 (io), E3 AD21 (io), E4 C/~{BE3} (io), F1 AD16 (io), F2 AD17 (io), F3 AD19 (io), G1 ~{IRDY} (io), G2 ~{FRAME} (io), G3 C/~{BE2} (io), H1 ~{LOCK} (io), H2 ~{STOP} (io), H3 ~{DEVSEL} (io), H4 ~{TRDY} (io), J1 PCLK (in), J2 ~{PERR} (io), J3 ~{SERR} (io), K1 PAR (io), K2 C/~{BE1} (io), K3 AD15 (io), L1 AD14 (io), L2 AD13 (io), L3 AD12 (io), L4 AD9 (io), M1 AD11 (io), M3 AD8 (io), M4 AD5 (io), N1 AD10 (io), N2 C/~{BE0} (io), N3 AD6 (io), N5 ~{GNT3} (out), N6 ~{REQ5} (in), N7 ~{LEDon} (out), P1 AD7 (io), P2 AD4 (io), P3 AD0 (io), P4 ~{REQ1} (in), P5 ~{REQ3} (in), P6 ~{ENUM} (oc), R1 AD2 (io), R2 AD1 (io), R3 ~{REQ2} (in), R4 ~{GNT4} (out), R5 ~{GNT5} (out), R6 ~{REQ6} (in), T1 AD3 (io), T2 ~{GNT1} (out), T3 ~{GNT2} (out), T4 ~{REQ4} (in), T5 ~{GNT6} (out), T6 CPCISW (in)
part C pins: A7 Card_VAUX (in), B3 VIO (power), D7 2.5VAUX (in), D8 PRESENT_DET (in), D9 VCORE (power), E2 VIO (power), E5 VSS (power), E6 VSS (power), E7 VRING (power), E8 VRING (power), E9 VSS (power), E10 VRING (power), E11 VSS (power), E12 VSS (power), F4 VCORE (power), F5 VSS (power), F6 VSS (power), F7 VSS (power), F8 VSS (power), F9 VSS (power), F10 VSS (power), F11 VSS (power), F12 VSS (power), F13 VCORE (power), G4 VSS (power), G5 VRING (power), G6 VSS (power), G7 VSS (power), G8 VSS (power), G9 VSS (power), G10 VSS (power), G11 VSS (power), G12 VRING (power), G13 VSS (power), H5 VRING (power), H6 VSS (power), H7 VSS (power), H8 VSS (power), H9 VSS (power), H10 VSS (power), H11 VSS (power), H12 VRING (power), J4 VSS (power), J5 VSS (power), J6 VSS (power), J7 VSS (power), J8 VSS (power), J9 VSS (power), J10 VSS (power), J11 VSS (power), J12 VRING (power), J13 VSS (power), K4 VCORE (power), K5 VRING (power), K6 VSS (power), K7 VSS (power), K8 VSS (power), K9 VSS (power), K10 VSS (power), K11 VSS (power), K12 VRING (power), K13 VCORE (power), L5 VSS (power), L6 VSS (power), L7 VSS (power), L8 VSS (power), L9 VSS (power), L10 VSS (power), L11 VSS (power), L12 VSS (power), M2 VIO (power), M5 VSS (power), M6 VSS (power), M7 VRING (power), M8 VRING (power), M9 VSS (power), M10 VRING (power), M11 VSS (power), M12 VSS (power), N4 VIO (power), N9 VCORE (power)
part A text: J MODE
part B text: J MODE
part C text: J MODE

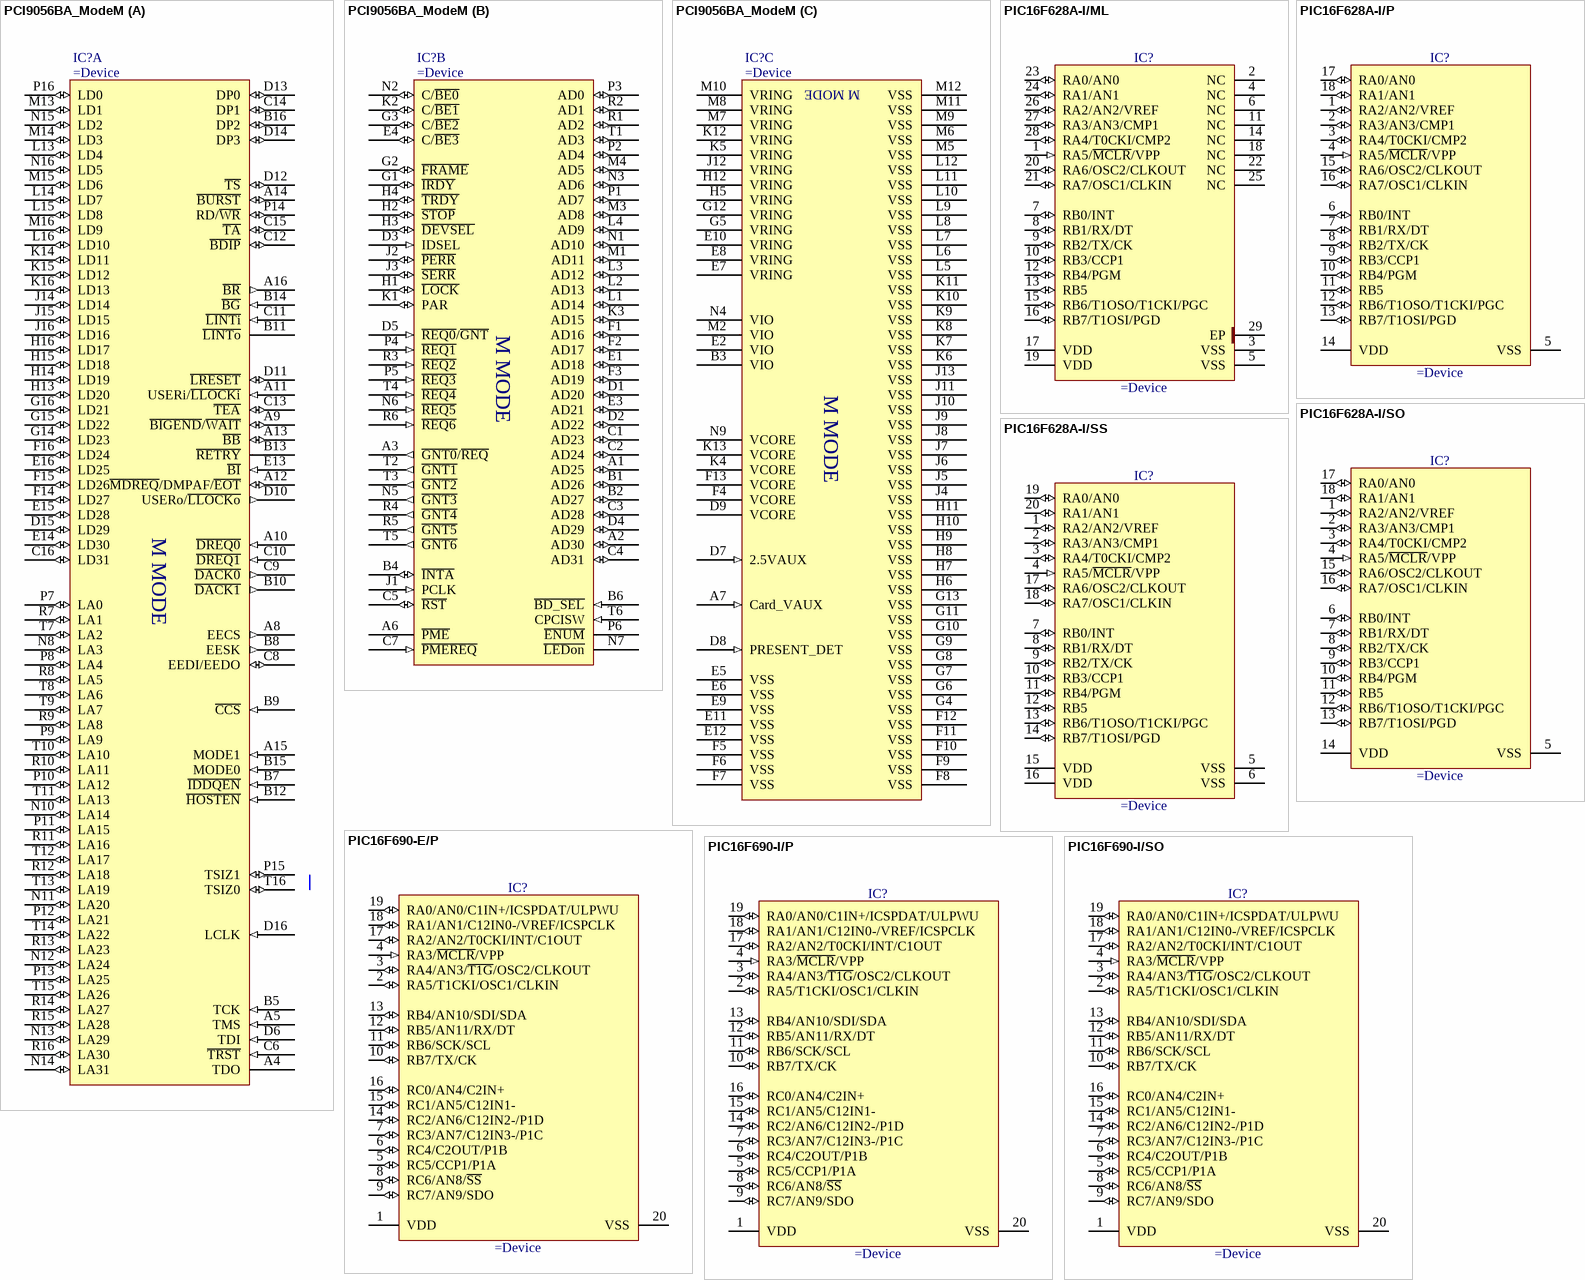
[diagram p112: symbols PCI9056BA_ModeM to PIC16F690-I/SO]

## PCI9056BA_ModeM
designator IC?
32-Bit 66MHz PCI Bus Mastering I/O Accelerator For PowerQUICC And Generic 32-Bit, 66MHz Local Bus Design
part A pins: A4 TDO (hiz), A5 TMS (in), A8 EECS (out), A9 ~{BIGEND}/~{WAIT} (io), A10 ~{DREQ0} (in), A11 USERi/~{LLOCKi} (in), A12 ~{MDREQ}/DMPAF/~{EOT} (io), A13 ~{BB} (io), A14 ~{BURST} (io), A15 MODE1 (in), A16 ~{BR} (out), B5 TCK (in), B7 ~{IDDQEN} (in), B8 EESK (out), B9 ~{CCS} (in), B10 ~{DACK1} (out), B11 ~{LINTo} (oc), B12 ~{HOSTEN} (in), B13 ~{RETRY} (hiz), B14 ~{BG} (in), B15 MODE0 (in), B16 DP2 (io), C6 ~{TRST} (in), C8 EEDI/EEDO (io), C9 ~{DACK0} (out), C10 ~{DREQ1} (in), C11 ~{LINTi} (in), C12 ~{BDIP} (io), C13 ~{TEA} (io), C14 DP1 (io), C15 ~{TA} (io), C16 LD31 (io), D6 TDI (in), D10 USERo/~{LLOCKo} (out), D11 ~{LRESET} (io), D12 ~{TS} (io), D13 DP0 (io), D14 DP3 (io), D15 LD29 (io), D16 LCLK (in), E13 ~{BI} (in), E14 LD30 (io), E15 LD28 (io), E16 LD25 (io), F14 LD27 (io), F15 LD26 (io), F16 LD24 (io), G14 LD23 (io), G15 LD22 (io), G16 LD21 (io), H13 LD20 (io), H14 LD19 (io), H15 LD18 (io), H16 LD17 (io), J14 LD14 (io), J15 LD15 (io), J16 LD16 (io), K14 LD11 (io), K15 LD12 (io), K16 LD13 (io), L13 LD4 (io), L14 LD7 (io), L15 LD8 (io), L16 LD10 (io), M13 LD1 (io), M14 LD3 (io), M15 LD6 (io), M16 LD9 (io), N8 LA3 (io), N10 LA14 (io), N11 LA20 (io), N12 LA24 (io), N13 LA29 (io), N14 LA31 (io), N15 LD2 (io), N16 LD5 (io), P7 LA0 (io), P8 LA4 (io), P9 LA9 (io), P10 LA12 (io), P11 LA15 (io), P12 LA21 (io), P13 LA25 (io), P14 RD/~{WR} (io), P15 TSIZ1 (io), P16 LD0 (io), R7 LA1 (io), R8 LA5 (io), R9 LA8 (io), R10 LA11 (io), R11 LA16 (io), R12 LA18 (io), R13 LA23 (io), R14 LA27 (io), R15 LA28 (io), R16 LA30 (io), T7 LA2 (io), T8 LA6 (io), T9 LA7 (io), T10 LA10 (io), T11 LA13 (io), T12 LA17 (io), T13 LA19 (io), T14 LA22 (io), T15 LA26 (io), T16 TSIZ0 (io)
part B pins: A1 AD25 (io), A2 AD30 (io), A3 ~{GNT0}/~{REQ} (out), A6 ~{PME} (oc), B1 AD26 (io), B2 AD27 (io), B4 ~{INTA} (io), B6 ~{BD_SEL} (in), C1 AD23 (io), C2 AD24 (io), C3 AD28 (io), C4 AD31 (io), C5 ~{RST} (io), C7 ~{PMEREQ} (in), D1 AD20 (io), D2 AD22 (io), D3 IDSEL (in), D4 AD29 (io), D5 ~{REQ0}/~{GNT} (in), E1 AD18 (io), E3 AD21 (io), E4 C/~{BE3} (io), F1 AD16 (io), F2 AD17 (io), F3 AD19 (io), G1 ~{IRDY} (io), G2 ~{FRAME} (io), G3 C/~{BE2} (io), H1 ~{LOCK} (io), H2 ~{STOP} (io), H3 ~{DEVSEL} (io), H4 ~{TRDY} (io), J1 PCLK (in), J2 ~{PERR} (io), J3 ~{SERR} (io), K1 PAR (io), K2 C/~{BE1} (io), K3 AD15 (io), L1 AD14 (io), L2 AD13 (io), L3 AD12 (io), L4 AD9 (io), M1 AD11 (io), M3 AD8 (io), M4 AD5 (io), N1 AD10 (io), N2 C/~{BE0} (io), N3 AD6 (io), N5 ~{GNT3} (out), N6 ~{REQ5} (in), N7 ~{LEDon} (oc), P1 AD7 (io), P2 AD4 (io), P3 AD0 (io), P4 ~{REQ1} (in), P5 ~{REQ3} (in), P6 ~{ENUM} (oc), R1 AD2 (io), R2 AD1 (io), R3 ~{REQ2} (in), R4 ~{GNT4} (out), R5 ~{GNT5} (out), R6 ~{REQ6} (in), T1 AD3 (io), T2 ~{GNT1} (out), T3 ~{GNT2} (out), T4 ~{REQ4} (in), T5 ~{GNT6} (out), T6 CPCISW (in)
part C pins: A7 Card_VAUX (in), B3 VIO (power), D7 2.5VAUX (in), D8 PRESENT_DET (in), D9 VCORE (power), E2 VIO (power), E5 VSS (power), E6 VSS (power), E7 VRING (power), E8 VRING (power), E9 VSS (power), E10 VRING (power), E11 VSS (power), E12 VSS (power), F4 VCORE (power), F5 VSS (power), F6 VSS (power), F7 VSS (power), F8 VSS (power), F9 VSS (power), F10 VSS (power), F11 VSS (power), F12 VSS (power), F13 VCORE (power), G4 VSS (power), G5 VRING (power), G6 VSS (power), G7 VSS (power), G8 VSS (power), G9 VSS (power), G10 VSS (power), G11 VSS (power), G12 VRING (power), G13 VSS (power), H5 VRING (power), H6 VSS (power), H7 VSS (power), H8 VSS (power), H9 VSS (power), H10 VSS (power), H11 VSS (power), H12 VRING (power), J4 VSS (power), J5 VSS (power), J6 VSS (power), J7 VSS (power), J8 VSS (power), J9 VSS (power), J10 VSS (power), J11 VSS (power), J12 VRING (power), J13 VSS (power), K4 VCORE (power), K5 VRING (power), K6 VSS (power), K7 VSS (power), K8 VSS (power), K9 VSS (power), K10 VSS (power), K11 VSS (power), K12 VRING (power), K13 VCORE (power), L5 VSS (power), L6 VSS (power), L7 VSS (power), L8 VSS (power), L9 VSS (power), L10 VSS (power), L11 VSS (power), L12 VSS (power), M2 VIO (power), M5 VSS (power), M6 VSS (power), M7 VRING (power), M8 VRING (power), M9 VSS (power), M10 VRING (power), M11 VSS (power), M12 VSS (power), N4 VIO (power), N9 VCORE (power)
part A text: M MODE
part B text: M MODE
part C text: M MODE

## PIC16F628A-I/ML
designator IC?
Flash-Based, 8-Bit CMOS Microcontrollers with nanoWatt Technology
pins: 1 RA5/~{MCLR}/VPP (in), 2 NC, 3 VSS (power), 4 NC, 5 VSS (power), 6 NC, 7 RB0/INT (io), 8 RB1/RX/DT (io), 9 RB2/TX/CK (io), 10 RB3/CCP1 (io), 11 NC, 12 RB4/PGM (io), 13 RB5 (io), 14 NC, 15 RB6/T1OSO/T1CKI/PGC (io), 16 RB7/T1OSI/PGD (io), 17 VDD (power), 18 NC, 19 VDD (power), 20 RA6/OSC2/CLKOUT (io), 21 RA7/OSC1/CLKIN (io), 22 NC, 23 RA0/AN0 (io), 24 RA1/AN1 (io), 25 NC, 26 RA2/AN2/VREF (io), 27 RA3/AN3/CMP1 (io), 28 RA4/T0CKI/CMP2 (io), 29 EP (power)

## PIC16F628A-I/P
designator IC?
Flash-Based, 8-Bit CMOS Microcontrollers with nanoWatt Technology
pins: 1 RA2/AN2/VREF (io), 2 RA3/AN3/CMP1 (io), 3 RA4/T0CKI/CMP2 (io), 4 RA5/~{MCLR}/VPP (in), 5 VSS (power), 6 RB0/INT (io), 7 RB1/RX/DT (io), 8 RB2/TX/CK (io), 9 RB3/CCP1 (io), 10 RB4/PGM (io), 11 RB5 (io), 12 RB6/T1OSO/T1CKI/PGC (io), 13 RB7/T1OSI/PGD (io), 14 VDD (power), 15 RA6/OSC2/CLKOUT (io), 16 RA7/OSC1/CLKIN (io), 17 RA0/AN0 (io), 18 RA1/AN1 (io)

## PIC16F628A-I/SO
designator IC?
Flash-Based, 8-Bit CMOS Microcontrollers with nanoWatt Technology
pins: 1 RA2/AN2/VREF (io), 2 RA3/AN3/CMP1 (io), 3 RA4/T0CKI/CMP2 (io), 4 RA5/~{MCLR}/VPP (in), 5 VSS (power), 6 RB0/INT (io), 7 RB1/RX/DT (io), 8 RB2/TX/CK (io), 9 RB3/CCP1 (io), 10 RB4/PGM (io), 11 RB5 (io), 12 RB6/T1OSO/T1CKI/PGC (io), 13 RB7/T1OSI/PGD (io), 14 VDD (power), 15 RA6/OSC2/CLKOUT (io), 16 RA7/OSC1/CLKIN (io), 17 RA0/AN0 (io), 18 RA1/AN1 (io)

## PIC16F628A-I/SS
designator IC?
Flash-Based, 8-Bit CMOS Microcontrollers with nanoWatt Technology
pins: 1 RA2/AN2/VREF (io), 2 RA3/AN3/CMP1 (io), 3 RA4/T0CKI/CMP2 (io), 4 RA5/~{MCLR}/VPP (in), 5 VSS (power), 6 VSS (power), 7 RB0/INT (io), 8 RB1/RX/DT (io), 9 RB2/TX/CK (io), 10 RB3/CCP1 (io), 11 RB4/PGM (io), 12 RB5 (io), 13 RB6/T1OSO/T1CKI/PGC (io), 14 RB7/T1OSI/PGD (io), 15 VDD (power), 16 VDD (power), 17 RA6/OSC2/CLKOUT (io), 18 RA7/OSC1/CLKIN (io), 19 RA0/AN0 (io), 20 RA1/AN1 (io)

## PIC16F690-E/P
designator IC?
20 Pins Flash-Based, 8-Bit CMOS Microcontrollers with nanoWatt Technology
pins: 1 VDD (power), 2 RA5/T1CKI/OSC1/CLKIN (io), 3 RA4/AN3/~{T1G}/OSC2/CLKOUT (io), 4 RA3/~{MCLR}/VPP (in), 5 RC5/CCP1/P1A (io), 6 RC4/C2OUT/P1B (io), 7 RC3/AN7/C12IN3-/P1C (io), 8 RC6/AN8/~{SS} (io), 9 RC7/AN9/SDO (io), 10 RB7/TX/CK (io), 11 RB6/SCK/SCL (io), 12 RB5/AN11/RX/DT (io), 13 RB4/AN10/SDI/SDA (io), 14 RC2/AN6/C12IN2-/P1D (io), 15 RC1/AN5/C12IN1- (io), 16 RC0/AN4/C2IN+ (io), 17 RA2/AN2/T0CKI/INT/C1OUT (io), 18 RA1/AN1/C12IN0-/VREF/ICSPCLK (io), 19 RA0/AN0/C1IN+/ICSPDAT/ULPWU (io), 20 VSS (power)

## PIC16F690-I/P
designator IC?
20 Pins Flash-Based, 8-Bit CMOS Microcontrollers with nanoWatt Technology
pins: 1 VDD (power), 2 RA5/T1CKI/OSC1/CLKIN (io), 3 RA4/AN3/~{T1G}/OSC2/CLKOUT (io), 4 RA3/~{MCLR}/VPP (in), 5 RC5/CCP1/P1A (io), 6 RC4/C2OUT/P1B (io), 7 RC3/AN7/C12IN3-/P1C (io), 8 RC6/AN8/~{SS} (io), 9 RC7/AN9/SDO (io), 10 RB7/TX/CK (io), 11 RB6/SCK/SCL (io), 12 RB5/AN11/RX/DT (io), 13 RB4/AN10/SDI/SDA (io), 14 RC2/AN6/C12IN2-/P1D (io), 15 RC1/AN5/C12IN1- (io), 16 RC0/AN4/C2IN+ (io), 17 RA2/AN2/T0CKI/INT/C1OUT (io), 18 RA1/AN1/C12IN0-/VREF/ICSPCLK (io), 19 RA0/AN0/C1IN+/ICSPDAT/ULPWU (io), 20 VSS (power)

## PIC16F690-I/SO
designator IC?
20 Pins Flash-Based, 8-Bit CMOS Microcontrollers with nanoWatt Technology
pins: 1 VDD (power), 2 RA5/T1CKI/OSC1/CLKIN (io), 3 RA4/AN3/~{T1G}/OSC2/CLKOUT (io), 4 RA3/~{MCLR}/VPP (in), 5 RC5/CCP1/P1A (io), 6 RC4/C2OUT/P1B (io), 7 RC3/AN7/C12IN3-/P1C (io), 8 RC6/AN8/~{SS} (io), 9 RC7/AN9/SDO (io), 10 RB7/TX/CK (io), 11 RB6/SCK/SCL (io), 12 RB5/AN11/RX/DT (io), 13 RB4/AN10/SDI/SDA (io), 14 RC2/AN6/C12IN2-/P1D (io), 15 RC1/AN5/C12IN1- (io), 16 RC0/AN4/C2IN+ (io), 17 RA2/AN2/T0CKI/INT/C1OUT (io), 18 RA1/AN1/C12IN0-/VREF/ICSPCLK (io), 19 RA0/AN0/C1IN+/ICSPDAT/ULPWU (io), 20 VSS (power)

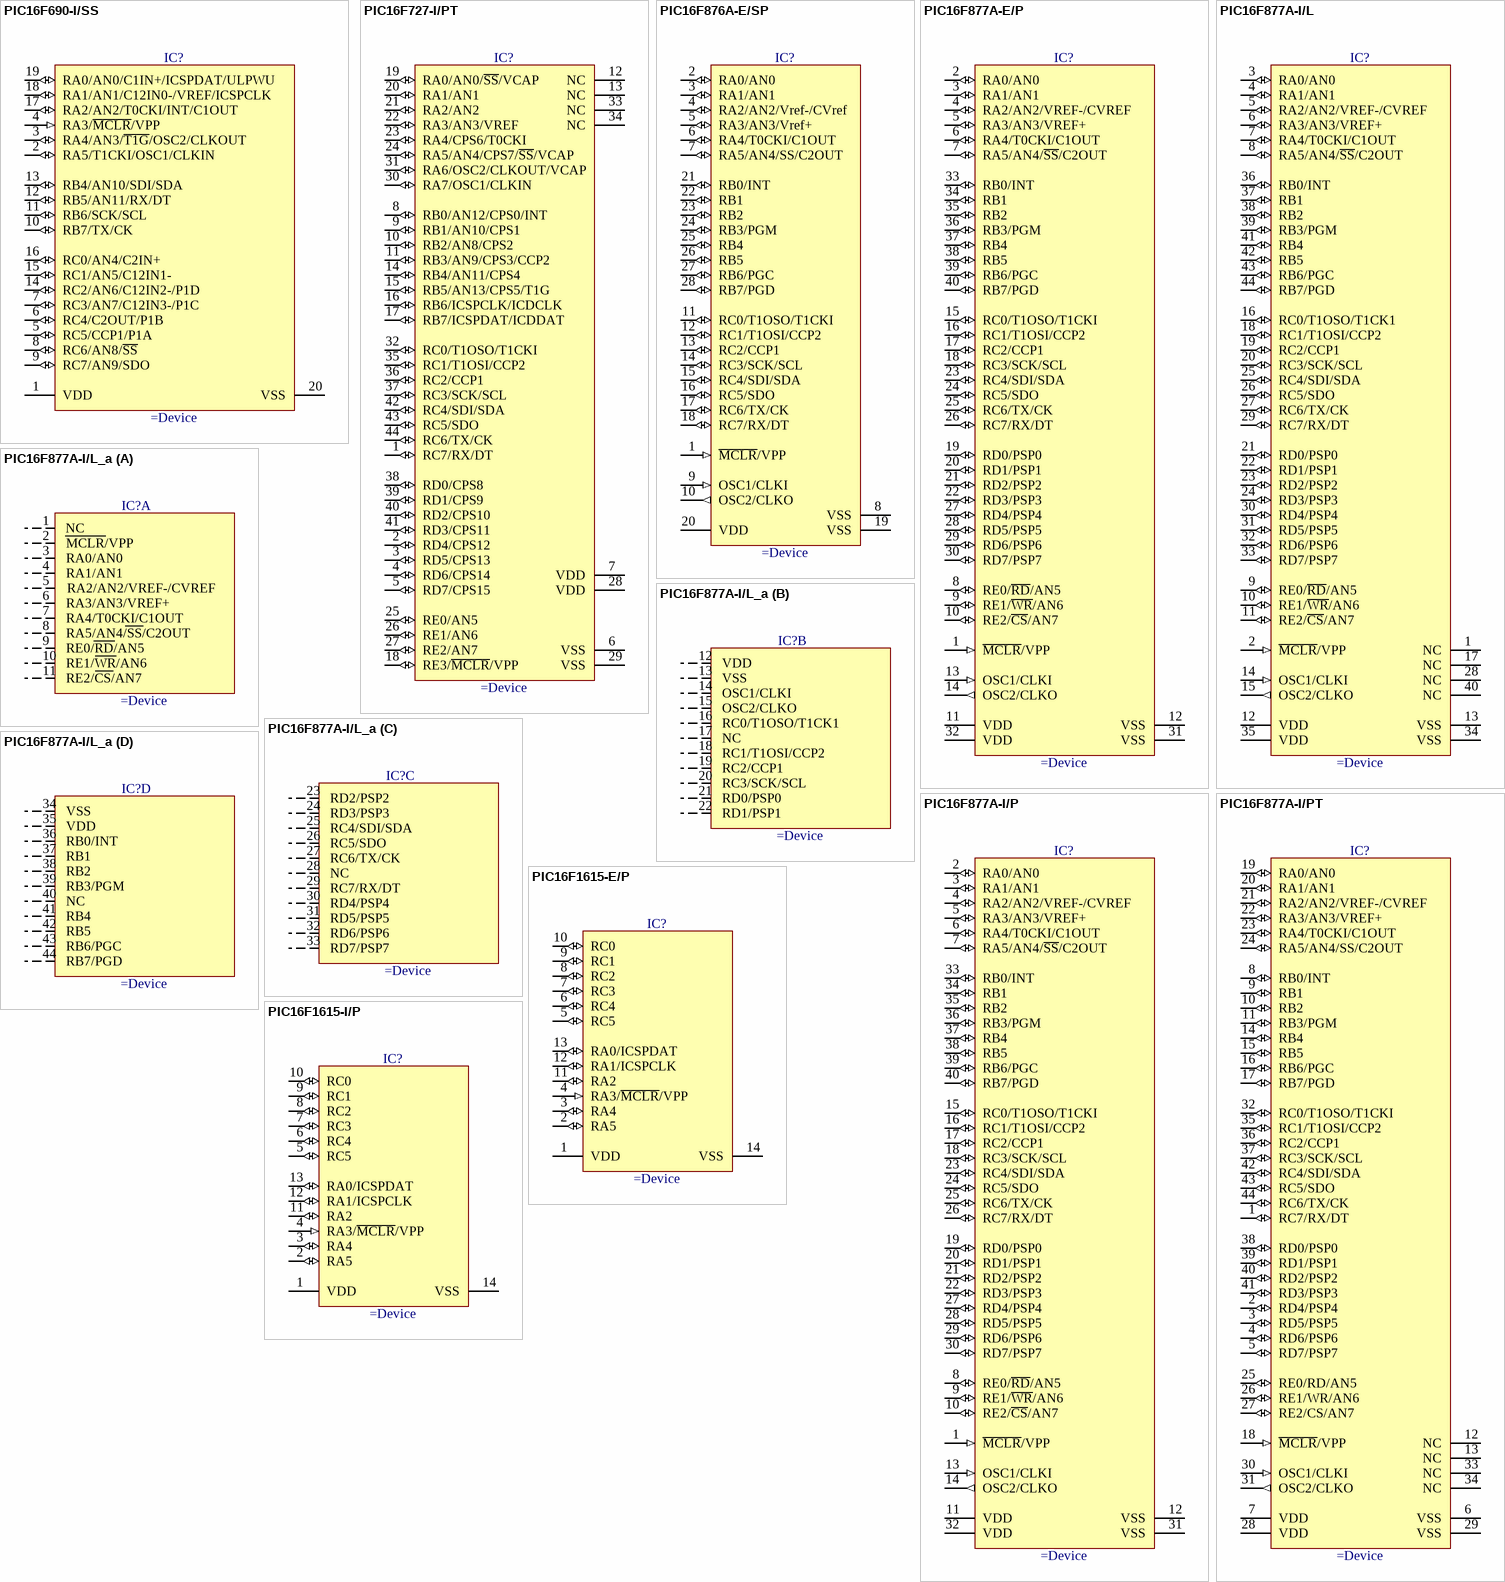
[diagram p113: symbols PIC16F690-I/SS to PIC16F1615-I/P]

## PIC16F690-I/SS
designator IC?
20 Pins Flash-Based, 8-Bit CMOS Microcontrollers with nanoWatt Technology
pins: 1 VDD (power), 2 RA5/T1CKI/OSC1/CLKIN (io), 3 RA4/AN3/~{T1G}/OSC2/CLKOUT (io), 4 RA3/~{MCLR}/VPP (in), 5 RC5/CCP1/P1A (io), 6 RC4/C2OUT/P1B (io), 7 RC3/AN7/C12IN3-/P1C (io), 8 RC6/AN8/~{SS} (io), 9 RC7/AN9/SDO (io), 10 RB7/TX/CK (io), 11 RB6/SCK/SCL (io), 12 RB5/AN11/RX/DT (io), 13 RB4/AN10/SDI/SDA (io), 14 RC2/AN6/C12IN2-/P1D (io), 15 RC1/AN5/C12IN1- (io), 16 RC0/AN4/C2IN+ (io), 17 RA2/AN2/T0CKI/INT/C1OUT (io), 18 RA1/AN1/C12IN0-/VREF/ICSPCLK (io), 19 RA0/AN0/C1IN+/ICSPDAT/ULPWU (io), 20 VSS (power)

## PIC16F727-I/PT
designator IC?
Flash-Based, 8-Bit CMOS Microcontroller, 8K (x14-Bit words) Program Memory, 368 Bytes Data Memory, 36 I/O pins, 44-Pin TQFP, Standard VDD Range, Industrial Temperature
pins: 1 RC7/RX/DT (io), 2 RD4/CPS12 (io), 3 RD5/CPS13 (io), 4 RD6/CPS14 (io), 5 RD7/CPS15 (io), 6 VSS (power), 7 VDD (power), 8 RB0/AN12/CPS0/INT (io), 9 RB1/AN10/CPS1 (io), 10 RB2/AN8/CPS2 (io), 11 RB3/AN9/CPS3/CCP2 (io), 12 NC, 13 NC, 14 RB4/AN11/CPS4 (io), 15 RB5/AN13/CPS5/T1G (io), 16 RB6/ICSPCLK/ICDCLK (io), 17 RB7/ICSPDAT/ICDDAT (io), 18 RE3/~{MCLR}/VPP (io), 19 RA0/AN0/~{SS}/VCAP (io), 20 RA1/AN1 (io), 21 RA2/AN2 (io), 22 RA3/AN3/VREF (io), 23 RA4/CPS6/T0CKI (io), 24 RA5/AN4/CPS7/~{SS}/VCAP (io), 25 RE0/AN5 (io), 26 RE1/AN6 (io), 27 RE2/AN7 (io), 28 VDD (power), 29 VSS (power), 30 RA7/OSC1/CLKIN (io), 31 RA6/OSC2/CLKOUT/VCAP (io), 32 RC0/T1OSO/T1CKI (io), 33 NC, 34 NC, 35 RC1/T1OSI/CCP2 (io), 36 RC2/CCP1 (io), 37 RC3/SCK/SCL (io), 38 RD0/CPS8 (io), 39 RD1/CPS9 (io), 40 RD2/CPS10 (io), 41 RD3/CPS11 (io), 42 RC4/SDI/SDA (io), 43 RC5/SDO (io), 44 RC6/TX/CK (io)

## PIC16F876A-E/SP
designator IC?
28 Pins Enhanced Flash Microcontroller
pins: 1 ~{MCLR}/VPP (in), 2 RA0/AN0 (io), 3 RA1/AN1 (io), 4 RA2/AN2/Vref-/CVref (io), 5 RA3/AN3/Vref+ (io), 6 RA4/T0CKI/C1OUT (io), 7 RA5/AN4/SS/C2OUT (io), 8 VSS (power), 9 OSC1/CLKI (in), 10 OSC2/CLKO (out), 11 RC0/T1OSO/T1CKI (io), 12 RC1/T1OSI/CCP2 (io), 13 RC2/CCP1 (io), 14 RC3/SCK/SCL (io), 15 RC4/SDI/SDA (io), 16 RC5/SDO (io), 17 RC6/TX/CK (io), 18 RC7/RX/DT (io), 19 VSS (power), 20 VDD (power), 21 RB0/INT (io), 22 RB1 (io), 23 RB2 (io), 24 RB3/PGM (io), 25 RB4 (io), 26 RB5 (io), 27 RB6/PGC (io), 28 RB7/PGD (io)

## PIC16F877A-E/P
designator IC?
40-Pin Enhanced Flash Microcontroller
pins: 1 ~{MCLR}/VPP (in), 2 RA0/AN0 (io), 3 RA1/AN1 (io), 4 RA2/AN2/VREF-/CVREF (io), 5 RA3/AN3/VREF+ (io), 6 RA4/T0CKI/C1OUT (io), 7 RA5/AN4/~{SS}/C2OUT (io), 8 RE0/~{RD}/AN5 (io), 9 RE1/~{WR}/AN6 (io), 10 RE2/~{CS}/AN7 (io), 11 VDD (power), 12 VSS (power), 13 OSC1/CLKI (in), 14 OSC2/CLKO (out), 15 RC0/T1OSO/T1CKI (io), 16 RC1/T1OSI/CCP2 (io), 17 RC2/CCP1 (io), 18 RC3/SCK/SCL (io), 19 RD0/PSP0 (io), 20 RD1/PSP1 (io), 21 RD2/PSP2 (io), 22 RD3/PSP3 (io), 23 RC4/SDI/SDA (io), 24 RC5/SDO (io), 25 RC6/TX/CK (io), 26 RC7/RX/DT (io), 27 RD4/PSP4 (io), 28 RD5/PSP5 (io), 29 RD6/PSP6 (io), 30 RD7/PSP7 (io), 31 VSS (power), 32 VDD (power), 33 RB0/INT (io), 34 RB1 (io), 35 RB2 (io), 36 RB3/PGM (io), 37 RB4 (io), 38 RB5 (io), 39 RB6/PGC (io), 40 RB7/PGD (io)

## PIC16F877A-I/L
designator IC?
44-Pin Enhanced Flash Microcontroller
pins: 1 NC, 2 ~{MCLR}/VPP (in), 3 RA0/AN0 (io), 4 RA1/AN1 (io), 5 RA2/AN2/VREF-/CVREF (io), 6 RA3/AN3/VREF+ (io), 7 RA4/T0CKI/C1OUT (io), 8 RA5/AN4/~{SS}/C2OUT (io), 9 RE0/~{RD}/AN5 (io), 10 RE1/~{WR}/AN6 (io), 11 RE2/~{CS}/AN7 (io), 12 VDD (power), 13 VSS (power), 14 OSC1/CLKI (in), 15 OSC2/CLKO (out), 16 RC0/T1OSO/T1CK1 (io), 17 NC, 18 RC1/T1OSI/CCP2 (io), 19 RC2/CCP1 (io), 20 RC3/SCK/SCL (io), 21 RD0/PSP0 (io), 22 RD1/PSP1 (io), 23 RD2/PSP2 (io), 24 RD3/PSP3 (io), 25 RC4/SDI/SDA (io), 26 RC5/SDO (io), 27 RC6/TX/CK (io), 28 NC, 29 RC7/RX/DT (io), 30 RD4/PSP4 (io), 31 RD5/PSP5 (io), 32 RD6/PSP6 (io), 33 RD7/PSP7 (io), 34 VSS (power), 35 VDD (power), 36 RB0/INT (io), 37 RB1 (io), 38 RB2 (io), 39 RB3/PGM (io), 40 NC, 41 RB4 (io), 42 RB5 (io), 43 RB6/PGC (io), 44 RB7/PGD (io)

## PIC16F877A-I/L_a
designator IC?
44-Pin Enhanced Flash Microcontroller
part A text: 1; NC; 2; MCLR/VPP; 3; RA0/AN0; 4; RA1/AN1; 5; RA2/AN2/VREF-/CVREF; 6; RA3/AN3/VREF+; 7; RA4/T0CKI/C1OUT; 8; RA5/AN4/SS/C2OUT; 9; RE0/RD/AN5; 10; RE1/WR/AN6; 11; RE2/CS/AN7
part B text: 12; VDD; 13; VSS; 14; OSC1/CLKI; 15; OSC2/CLKO; 16; RC0/T1OSO/T1CK1; 17; NC; 18; RC1/T1OSI/CCP2; 19; RC2/CCP1; 20; RC3/SCK/SCL; 21; RD0/PSP0; 22; RD1/PSP1
part C text: 23; RD2/PSP2; 24; RD3/PSP3; 25; RC4/SDI/SDA; 26; RC5/SDO; 27; RC6/TX/CK; 28; NC; 29; RC7/RX/DT; 30; RD4/PSP4; 31; RD5/PSP5; 32; RD6/PSP6; 33; RD7/PSP7
part D text: 34; VSS; 35; VDD; 36; RB0/INT; 37; RB1; 38; RB2; 39; RB3/PGM; 40; NC; 41; RB4; 42; RB5; 43; RB6/PGC; 44; RB7/PGD

## PIC16F877A-I/P
designator IC?
40-Pin Enhanced Flash Microcontroller
pins: 1 ~{MCLR}/VPP (in), 2 RA0/AN0 (io), 3 RA1/AN1 (io), 4 RA2/AN2/VREF-/CVREF (io), 5 RA3/AN3/VREF+ (io), 6 RA4/T0CKI/C1OUT (io), 7 RA5/AN4/~{SS}/C2OUT (io), 8 RE0/~{RD}/AN5 (io), 9 RE1/~{WR}/AN6 (io), 10 RE2/~{CS}/AN7 (io), 11 VDD (power), 12 VSS (power), 13 OSC1/CLKI (in), 14 OSC2/CLKO (out), 15 RC0/T1OSO/T1CKI (io), 16 RC1/T1OSI/CCP2 (io), 17 RC2/CCP1 (io), 18 RC3/SCK/SCL (io), 19 RD0/PSP0 (io), 20 RD1/PSP1 (io), 21 RD2/PSP2 (io), 22 RD3/PSP3 (io), 23 RC4/SDI/SDA (io), 24 RC5/SDO (io), 25 RC6/TX/CK (io), 26 RC7/RX/DT (io), 27 RD4/PSP4 (io), 28 RD5/PSP5 (io), 29 RD6/PSP6 (io), 30 RD7/PSP7 (io), 31 VSS (power), 32 VDD (power), 33 RB0/INT (io), 34 RB1 (io), 35 RB2 (io), 36 RB3/PGM (io), 37 RB4 (io), 38 RB5 (io), 39 RB6/PGC (io), 40 RB7/PGD (io)